# Altium footprint library DIP.PcbLib: 1 footprints
Each footprint in its own frame and in the unit in brackets; x right, y up, seen from the top. Pads: shape width x height; smd on the part's side, far side on the other; paste and mask are expansions set on the pad; w line width, h text height; cw(c..) or ccw(c..) is an arc to the next point about the centre after c.
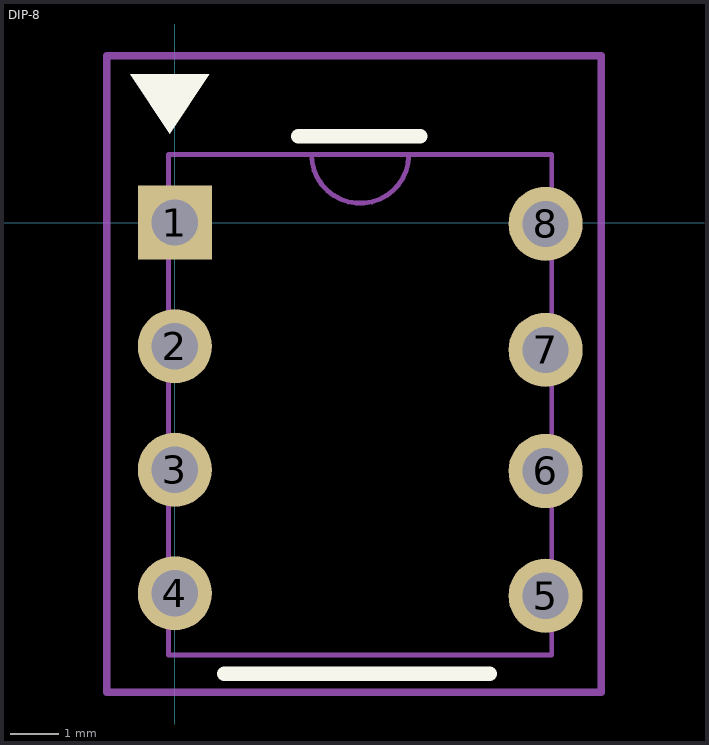
[diagram p0: the footprint, top view; thin cyan lines are the x and y axes]

## DIP-8 [mil]
pads (8):
  rect 60x60 hole 37.4: 1(0,0)
  round 60 hole 37.4: 2(0,-100) 3(0,-200) 4(0,-300) 5(300,-302) 6(300,-201) 7(300,-103) 8(300,-1)
Top Overlay:
  region: 28,120 -36,120 -4,72
  lines w11.81: 40,-365 255,-365 ; 100,70 198.43,70
Top Assembly:
  lines w3.94: 110.63,55 ccw(c150,55) 189.37,55 ; -5,-350 305,-350 305,55 -5,55 -5,-350
Top Component Outline:
  lines w6: -55,-380 -55,135 345,135 345,-380 -55,-380
3D body "dip-8.step": height 149.61, standoff -94.49, extent -6,-349.79 305.81,51.78